# Altium schematic symbol library lp_ecg.SchLib: 19 symbols
Pins are listed as number, name and electrical type; pins without a type are passive.

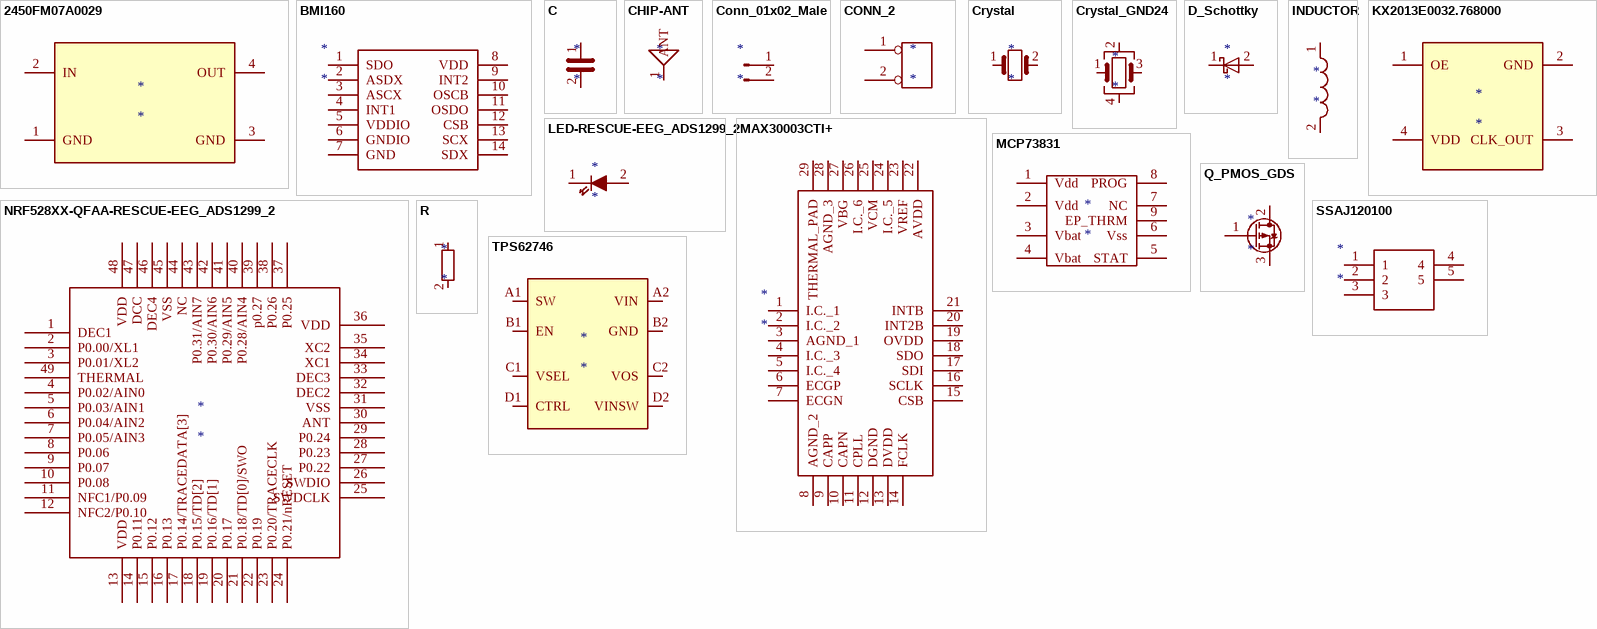
[diagram p0: symbols 2450FM07A0029 to TPS62746]

## 2450FM07A0029
designator *
pins: 1 GND, 2 IN, 3 GND, 4 OUT

## BMI160
designator *
pins: 1 SDO, 2 ASDX, 3 ASCX, 4 INT1, 5 VDDIO, 6 GNDIO, 7 GND, 8 VDD, 9 INT2, 10 OSCB, 11 OSDO, 12 CSB, 13 SCX, 14 SDX

## C
designator *
pins: 1, 2

## CHIP-ANT
designator *
pins: 1 ANT, 2 NC hidden

## Conn_01x02_Male
designator *
pins: 1 Pin_1, 2 Pin_2

## CONN_2
designator *
pins: 1 P1, 2 PM

## Crystal
designator *
pins: 1, 2

## Crystal_GND24
designator *
pins: 1, 2, 3, 4

## D_Schottky
designator *
pins: 1 K, 2 A

## INDUCTOR
designator *
pins: 1, 2

## KX2013E0032.768000
designator *
pins: 1 OE, 2 GND, 3 CLK_OUT, 4 VDD

## LED-RESCUE-EEG_ADS1299_2
designator *
pins: 1 K, 2 A

## MAX30003CTI+
designator *
pins: 1 I.C._1, 2 I.C._2, 3 AGND_1, 4 I.C._3, 5 I.C._4, 6 ECGP, 7 ECGN, 8 AGND_2, 9 CAPP, 10 CAPN, 11 CPLL, 12 DGND, 13 DVDD, 14 FCLK, 15 CSB, 16 SCLK, 17 SDI, 18 SDO, 19 OVDD, 20 INT2B, 21 INTB, 22 AVDD, 23 VREF, 24 I.C._5, 25 VCM, 26 I.C._6, 27 VBG, 28 AGND_3, 29 THERMAL_PAD

## MCP73831
designator *
pins: 1 Vdd, 2 Vdd, 3 Vbat, 4 Vbat, 5 STAT, 6 Vss, 7 NC, 8 PROG, 9 EP_THRM

## NRF528XX-QFAA-RESCUE-EEG_ADS1299_2
designator *
pins: 1 DEC1, 2 P0.00/XL1, 3 P0.01/XL2, 4 P0.02/AIN0, 5 P0.03/AIN1, 6 P0.04/AIN2, 7 P0.05/AIN3, 8 P0.06, 9 P0.07, 10 P0.08, 11 NFC1/P0.09, 12 NFC2/P0.10, 13 VDD, 14 P0.11, 15 P0.12, 16 P0.13, 17 P0.14/TRACEDATA[3], 18 P0.15/TD[2], 19 P0.16/TD[1], 20 P0.17, 21 P0.18/TD[0]/SWO, 22 P0.19, 23 P0.20/TRACECLK, 24 P0.21/nRESET, 25 SWDCLK, 26 SWDIO, 27 P0.22, 28 P0.23, 29 P0.24, 30 ANT, 31 VSS, 32 DEC2, 33 DEC3, 34 XC1, 35 XC2, 36 VDD, 37 P0.25, 38 P0.26, 39 p0.27, 40 P0.28/AIN4, 41 P0.29/AIN5, 42 P0.30/AIN6, 43 P0.31/AIN7, 44 NC, 45 VSS, 46 DEC4, 47 DCC, 48 VDD, 49 THERMAL

## Q_PMOS_GDS
designator *
pins: 1 G, 2 D, 3 S

## R
designator *
pins: 1, 2

## SSAJ120100
designator *
pins: 1, 2, 3, 4, 5

## TPS62746
designator *
pins: A1 SW, A2 VIN, B1 EN, B2 GND, C1 VSEL, C2 VOS, D1 CTRL, D2 VINSW